# Altium footprint library cc2541.PcbLib: 1 footprints
Each footprint in its own frame and in the unit in brackets; x right, y up, seen from the top. Pads: shape width x height; smd on the part's side, far side on the other; paste and mask are expansions set on the pad; w line width, h text height; cw(c..) or ccw(c..) is an arc to the next point about the centre after c.
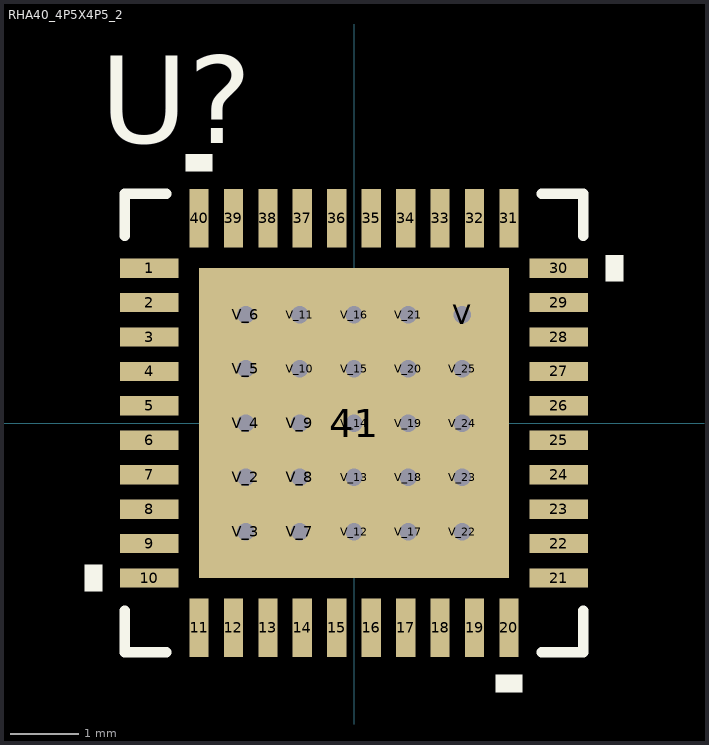
[diagram p0: the footprint, top view; thin cyan lines are the x and y axes]

## RHA40_4P5X4P5_2 [mm] "CC2541 footprint"
pads (66):
  rect 0.85x0.28 smd paste-0.14: 1(-2.975,2.25) 2(-2.975,1.75) 3(-2.975,1.25) 4(-2.975,0.75) 5(-2.975,0.25) 6(-2.975,-0.25) 7(-2.975,-0.75) 8(-2.975,-1.25) 9(-2.975,-1.75) 10(-2.975,-2.25) 21(2.975,-2.25) 22(2.975,-1.75) 23(2.975,-1.25) 24(2.975,-0.75) 25(2.975,-0.25) 26(2.975,0.25) 27(2.975,0.75) 28(2.975,1.25) 29(2.975,1.75) 30(2.975,2.25)
  rect 0.28x0.85 smd paste-0.14: 11(-2.251,-2.975) 12(-1.75,-2.975) 13(-1.25,-2.975) 14(-0.75,-2.975) 15(-0.25,-2.975) 16(0.25,-2.975) 17(0.75,-2.975) 18(1.25,-2.975) 19(1.75,-2.975) 20(2.251,-2.975) 31(2.251,2.975) 32(1.75,2.975) 33(1.25,2.975) 34(0.75,2.975) 35(0.25,2.975) 36(-0.25,2.975) 37(-0.75,2.975) 38(-1.25,2.975) 39(-1.75,2.975) 40(-2.251,2.975)
  rect 4.5x4.5 smd paste-2.237 mask-2.235: 41(0,0)
  round 0.508 / inner round 1.524 / far side round 0.508 hole 0.254: V(1.575,1.575) V_2(-1.575,-0.787) V_3(-1.575,-1.575) V_4(-1.575,0) V_5(-1.575,0.787) V_6(-1.575,1.575) V_7(-0.787,-1.575) V_8(-0.787,-0.787) V_9(-0.787,0) V_10(-0.787,0.787) V_11(-0.787,1.575) V_12(0,-1.575) V_13(0,-0.787) V_14(0,0) V_15(0,0.787) V_16(0,1.575) V_17(0.787,-1.575) V_18(0.787,-0.787) V_19(0.787,0) V_20(0.787,0.787) V_21(0.787,1.575) V_22(1.575,-1.575) V_23(1.575,-0.787) V_24(1.575,0) V_25(1.575,0.787)
Top Overlay:
  region: -3.654,-2.06 -3.908,-2.06 -3.908,-2.441 -3.654,-2.441
  region: 2.441,-3.654 2.06,-3.654 2.06,-3.908 2.441,-3.908
  region: 3.654,2.441 3.908,2.441 3.908,2.06 3.654,2.06
  region: -2.06,3.654 -2.441,3.654 -2.441,3.908 -2.06,3.908
  lines w0.152: -3.329,-2.723 -3.329,-3.329 -2.723,-3.329 ; -3.329,2.723 -3.329,3.329 -2.723,3.329 ; 2.723,-3.329 3.329,-3.329 3.329,-2.723 ; 2.723,3.329 3.329,3.329 3.329,2.723
  text "U?" at -3.683,4.064 h1.27
Top Paste:
  drawing of 76 lines, arcs and shapes, not listed
Top Solder:
  drawing of 51 lines, arcs and shapes, not listed